# Altium footprint library kAltiumLib.PcbLib: 1 footprints
Each footprint in its own frame and in the unit in brackets; x right, y up, seen from the top. Pads: shape width x height; smd on the part's side, far side on the other; paste and mask are expansions set on the pad; w line width, h text height; cw(c..) or ccw(c..) is an arc to the next point about the centre after c.
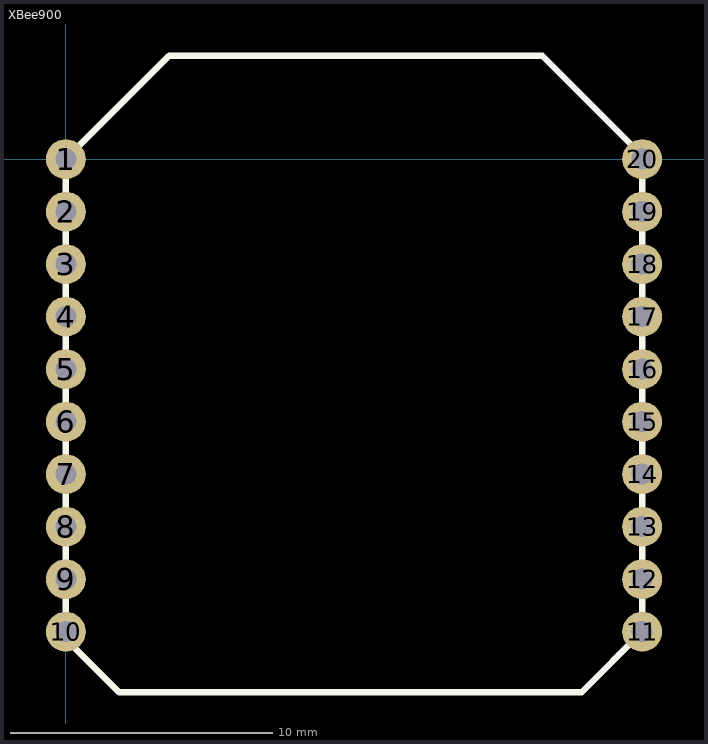
[diagram p0: the footprint, top view; thin cyan lines are the x and y axes]

## XBee900 [mil]
pads (20):
  round 60 hole 31.5: 1(0,0) 2(0,-78.8) 3(0,-157.6) 4(0,-236.4) 5(0,-315.2) 6(0,-394) 7(0,-472.8) 8(0,-551.6) 9(0,-630.4) 10(0,-709.2) 11(865,-709.2) 12(865,-630.4) 13(865,-551.6) 14(865,-472.8) 15(865,-394) 16(865,-315.2) 17(865,-236.4) 18(865,-157.6) 19(865,-78.8) 20(865,0)
Top Overlay:
  lines w10: 215,155 715,155 865,5 865,-709.2 774.2,-800 80,-800 0,-720 0,-709.2 0,0 155,155 225,155